# Altium schematic symbol library BC847CLT1G.Schlib: 1 symbol
Pins are listed as number, name and electrical type; pins without a type are passive.

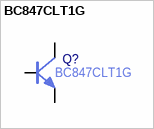
[diagram p0: symbol BC847CLT1G]

## BC847CLT1G
designator Q?
Manufacturer Part Number: BC847CLT1G
pins: 1 B, 2 E, 3 C